# Altium schematic symbol library ICs-RS485Transceivers.SchLib: 1 symbol
Pins are listed as number, name and electrical type; pins without a type are passive.

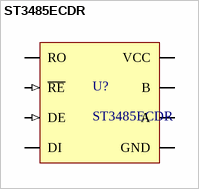
[diagram p0: symbol ST3485ECDR]

## ST3485ECDR
designator U?
3.3 V powered, 15 kV ESD protected, up to 12 Mbps RS-485/  RS-422 transceiver 0 to 70; Manufacturer: STMicroelectronics; Mounting Technology: Surface Mount; PackageReference: SOIC-8; PackageDescription: SOIC-8; PartNumber: ST3485ECDR
footprint SOIC-8 (SOIC, 8-Leads, Body 4.90x3.90mm, Pitch 1.27mm, IPC Medium Density)
pins: 1 RO (io), 2 ~{RE} (in), 3 DE (in), 4 DI (io), 5 GND (power), 6 A (io), 7 B (io), 8 VCC (power)